# Altium footprint library PCB - LEADED - TI DL-R-PDSO-G48_N.PCBLIB: 1 footprints
Each footprint in its own frame and in the unit in brackets; x right, y up, seen from the top. Pads: shape width x height; smd on the part's side, far side on the other; paste and mask are expansions set on the pad; w line width, h text height; cw(c..) or ccw(c..) is an arc to the next point about the centre after c.
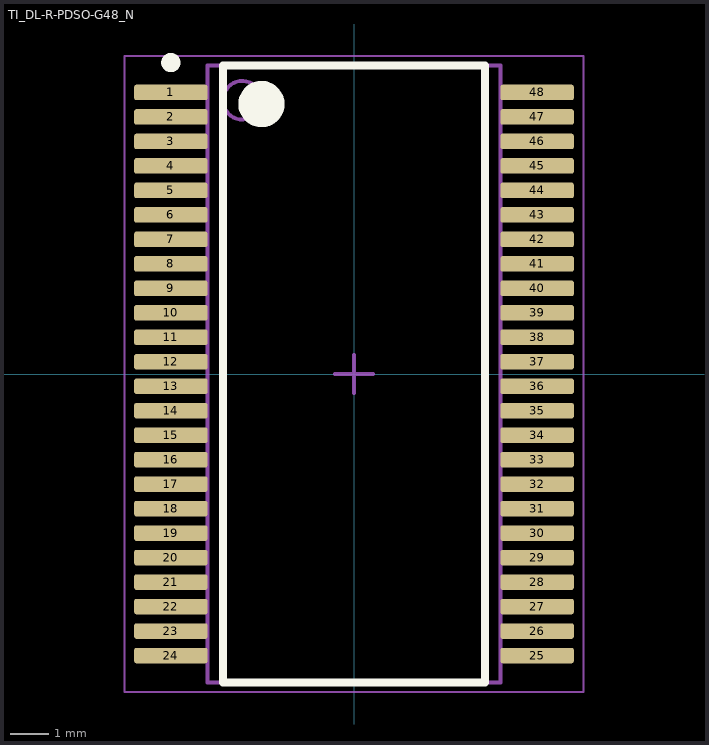
[diagram p0: the footprint, top view; thin cyan lines are the x and y axes]

## TI_DL-R-PDSO-G48_N [mm] "Texas Instruments SSOP, 48-Leads, Body 7.6x16mm, Pitch 0.635mm, IPC Medium Density"
height 2.79
pads (48):
  rrect25% 1.9x0.4 smd: 1(-4.75,7.302) 2(-4.75,6.667) 3(-4.75,6.032) 4(-4.75,5.397) 5(-4.75,4.763) 6(-4.75,4.127) 7(-4.75,3.492) 8(-4.75,2.857) 9(-4.75,2.222) 10(-4.75,1.587) 11(-4.75,0.953) 12(-4.75,0.318) 13(-4.75,-0.318) 14(-4.75,-0.953) 15(-4.75,-1.587) 16(-4.75,-2.222) 17(-4.75,-2.857) 18(-4.75,-3.492) 19(-4.75,-4.127) 20(-4.75,-4.763) 21(-4.75,-5.397) 22(-4.75,-6.032) 23(-4.75,-6.667) 24(-4.75,-7.302) 25(4.75,-7.302) 26(4.75,-6.667) 27(4.75,-6.032) 28(4.75,-5.397) 29(4.75,-4.763) 30(4.75,-4.127) 31(4.75,-3.492) 32(4.75,-2.857) 33(4.75,-2.222) 34(4.75,-1.587) 35(4.75,-0.953) 36(4.75,-0.318) 37(4.75,0.318) 38(4.75,0.953) 39(4.75,1.587) 40(4.75,2.222) 41(4.75,2.857) 42(4.75,3.492) 43(4.75,4.127) 44(4.75,4.763) 45(4.75,5.397) 46(4.75,6.032) 47(4.75,6.667) 48(4.75,7.302)
Top Overlay:
  circle w0.6: c-2.4,7 r0.3
  circle w0.25: c-4.75,8.077 r0.125
  lines w0.2: -3.4,-8 3.4,-8 3.4,8 -3.4,8 -3.4,-8
M5 Assembly Top:
  circle w0.1: c-2.9,7.1 r0.5
  lines w0.1: -3.8,-8 -3.8,8 3.8,8 3.8,-8 -3.8,-8
  text ".Designator" at -4.445,8.509 h0.9
Mechanical 15:
  lines w0.05: -5.95,-8.25 5.95,-8.25 5.95,8.25 -5.95,8.25 -5.95,-8.25
  lines w0.1: -0.5,0 0.5,0 ; 0,-0.5 0,0.5
3D body "DL0048AakaMS48A.stp": height 2.6, standoff 0, extent -5.176,-7.937 5.176,7.937